# Altium schematic symbol library SCH - ARM Cortex - NXP LPC55S04JHI48.SchLib: 1 symbol
Pins are listed as number, name and electrical type; pins without a type are passive.

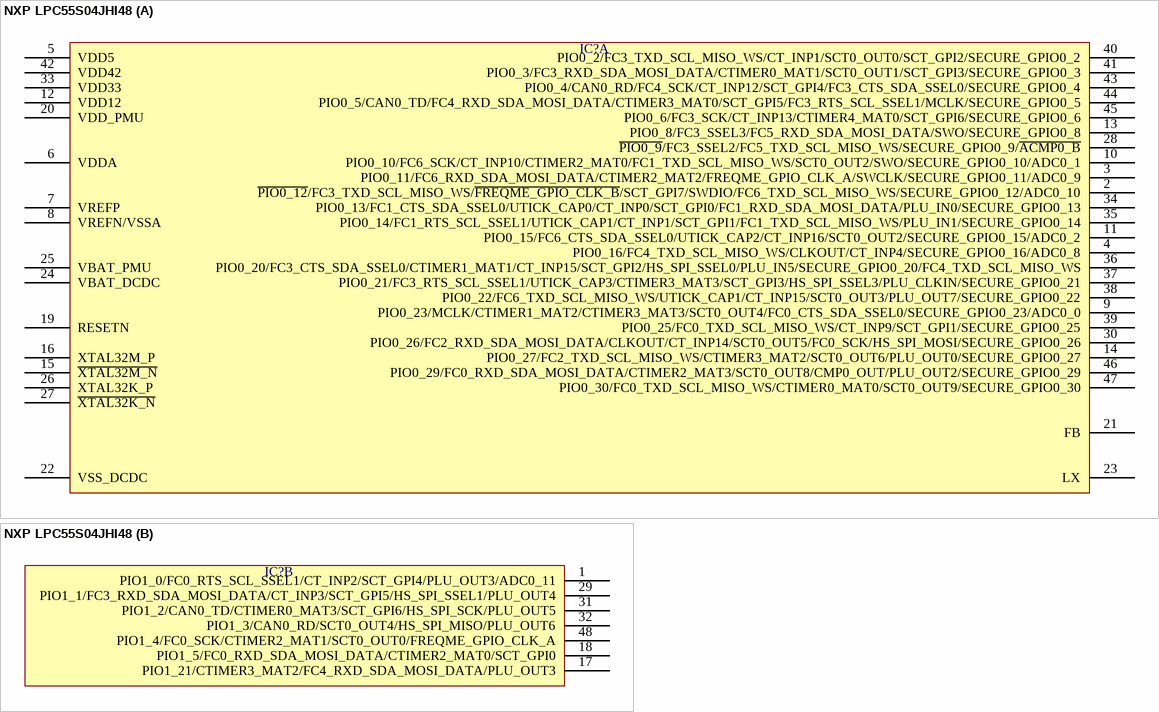
[diagram p0: symbol NXP LPC55S04JHI48]

## NXP LPC55S04JHI48
designator IC?  (value not drawn)
part A pins: 2 ~{PIO0_12}/FC3_TXD_SCL_MISO_WS/~{FREQME_GPIO_CLK_B}/SCT_GPI7/SWDIO/FC6_TXD_SCL_MISO_WS/SECURE_GPIO0_12/ADC0_10, 3 PIO0_11/FC6_RXD_SDA_MOSI_DATA/CTIMER2_MAT2/FREQME_GPIO_CLK_A/SWCLK/SECURE_GPIO0_11/ADC0_9, 4 PIO0_16/FC4_TXD_SCL_MISO_WS/CLKOUT/CT_INP4/SECURE_GPIO0_16/ADC0_8, 5 VDD5, 6 VDDA, 7 VREFP, 8 VREFN/VSSA, 9 PIO0_23/MCLK/CTIMER1_MAT2/CTIMER3_MAT3/SCT0_OUT4/FC0_CTS_SDA_SSEL0/SECURE_GPIO0_23/ADC0_0, 10 PIO0_10/FC6_SCK/CT_INP10/CTIMER2_MAT0/FC1_TXD_SCL_MISO_WS/SCT0_OUT2/SWO/SECURE_GPIO0_10/ADC0_1, 11 PIO0_15/FC6_CTS_SDA_SSEL0/UTICK_CAP2/CT_INP16/SCT0_OUT2/SECURE_GPIO0_15/ADC0_2, 12 VDD12, 13 PIO0_8/FC3_SSEL3/FC5_RXD_SDA_MOSI_DATA/SWO/SECURE_GPIO0_8, 14 PIO0_27/FC2_TXD_SCL_MISO_WS/CTIMER3_MAT2/SCT0_OUT6/PLU_OUT0/SECURE_GPIO0_27, 15 ~{XTAL32M_N}, 16 XTAL32M_P, 19 RESETN, 20 VDD_PMU, 21 FB, 22 VSS_DCDC, 23 LX, 24 VBAT_DCDC, 25 VBAT_PMU, 26 XTAL32K_P, 27 ~{XTAL32K_N}, 28 ~{PIO0_9}/FC3_SSEL2/FC5_TXD_SCL_MISO_WS/SECURE_GPIO0_9/~{ACMP0_B}, 30 PIO0_26/FC2_RXD_SDA_MOSI_DATA/CLKOUT/CT_INP14/SCT0_OUT5/FC0_SCK/HS_SPI_MOSI/SECURE_GPIO0_26, 33 VDD33, 34 PIO0_13/FC1_CTS_SDA_SSEL0/UTICK_CAP0/CT_INP0/SCT_GPI0/FC1_RXD_SDA_MOSI_DATA/PLU_IN0/SECURE_GPIO0_13, 35 PIO0_14/FC1_RTS_SCL_SSEL1/UTICK_CAP1/CT_INP1/SCT_GPI1/FC1_TXD_SCL_MISO_WS/PLU_IN1/SECURE_GPIO0_14, 36 PIO0_20/FC3_CTS_SDA_SSEL0/CTIMER1_MAT1/CT_INP15/SCT_GPI2/HS_SPI_SSEL0/PLU_IN5/SECURE_GPIO0_20/FC4_TXD_SCL_MISO_WS, 37 PIO0_21/FC3_RTS_SCL_SSEL1/UTICK_CAP3/CTIMER3_MAT3/SCT_GPI3/HS_SPI_SSEL3/PLU_CLKIN/SECURE_GPIO0_21, 38 PIO0_22/FC6_TXD_SCL_MISO_WS/UTICK_CAP1/CT_INP15/SCT0_OUT3/PLU_OUT7/SECURE_GPIO0_22, 39 PIO0_25/FC0_TXD_SCL_MISO_WS/CT_INP9/SCT_GPI1/SECURE_GPIO0_25, 40 PIO0_2/FC3_TXD_SCL_MISO_WS/CT_INP1/SCT0_OUT0/SCT_GPI2/SECURE_GPIO0_2, 41 PIO0_3/FC3_RXD_SDA_MOSI_DATA/CTIMER0_MAT1/SCT0_OUT1/SCT_GPI3/SECURE_GPIO0_3, 42 VDD42, 43 PIO0_4/CAN0_RD/FC4_SCK/CT_INP12/SCT_GPI4/FC3_CTS_SDA_SSEL0/SECURE_GPIO0_4, 44 PIO0_5/CAN0_TD/FC4_RXD_SDA_MOSI_DATA/CTIMER3_MAT0/SCT_GPI5/FC3_RTS_SCL_SSEL1/MCLK/SECURE_GPIO0_5, 45 PIO0_6/FC3_SCK/CT_INP13/CTIMER4_MAT0/SCT_GPI6/SECURE_GPIO0_6, 46 PIO0_29/FC0_RXD_SDA_MOSI_DATA/CTIMER2_MAT3/SCT0_OUT8/CMP0_OUT/PLU_OUT2/SECURE_GPIO0_29, 47 PIO0_30/FC0_TXD_SCL_MISO_WS/CTIMER0_MAT0/SCT0_OUT9/SECURE_GPIO0_30
part B pins: 1 PIO1_0/FC0_RTS_SCL_SSEL1/CT_INP2/SCT_GPI4/PLU_OUT3/ADC0_11, 17 PIO1_21/CTIMER3_MAT2/FC4_RXD_SDA_MOSI_DATA/PLU_OUT3, 18 PIO1_5/FC0_RXD_SDA_MOSI_DATA/CTIMER2_MAT0/SCT_GPI0, 29 PIO1_1/FC3_RXD_SDA_MOSI_DATA/CT_INP3/SCT_GPI5/HS_SPI_SSEL1/PLU_OUT4, 31 PIO1_2/CAN0_TD/CTIMER0_MAT3/SCT_GPI6/HS_SPI_SCK/PLU_OUT5, 32 PIO1_3/CAN0_RD/SCT0_OUT4/HS_SPI_MISO/PLU_OUT6, 48 PIO1_4/FC0_SCK/CTIMER2_MAT1/SCT0_OUT0/FREQME_GPIO_CLK_A